# Altium footprint library C0805C105J4RACTM.PcbLib: 1 footprints
Each footprint in its own frame and in the unit in brackets; x right, y up, seen from the top. Pads: shape width x height; smd on the part's side, far side on the other; paste and mask are expansions set on the pad; w line width, h text height; cw(c..) or ccw(c..) is an arc to the next point about the centre after c.
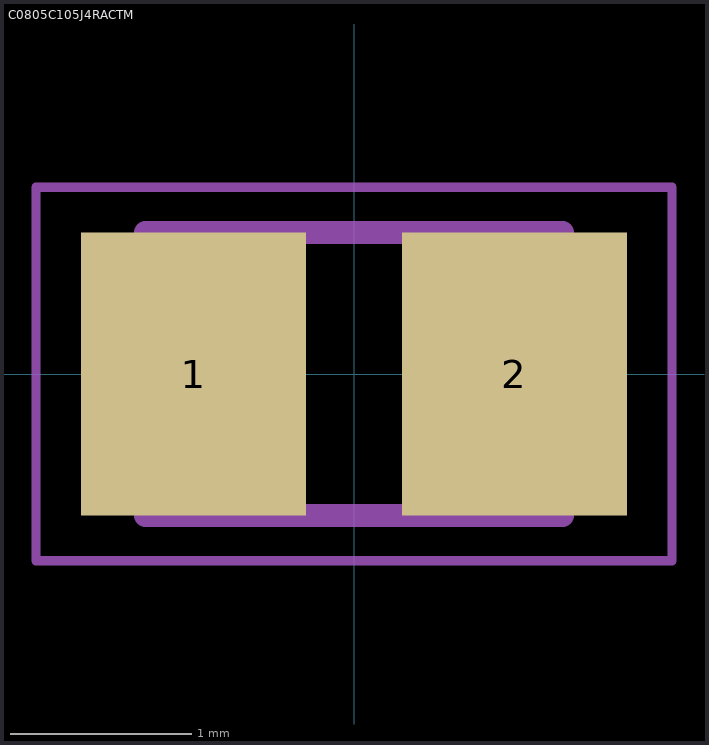
[diagram p0: the footprint, top view; thin cyan lines are the x and y axes]

## C0805C105J4RACTM [mm]
pads (2):
  rect 1.24x1.56 smd: 1(-0.885,0) 2(0.885,0)
Mechanical 13:
  lines w0.127: -1.15,-0.78 1.15,-0.78 1.15,0.78 -1.15,0.78 -1.15,-0.78
Mechanical 15:
  lines w0.05: -1.755,-1.03 1.755,-1.03 1.755,1.03 -1.755,1.03 -1.755,-1.03
3D body "C0805C105J4RACTM.STEP": height 1.45, standoff 0, extent -1,-0.625 1,0.625